# Altium footprint library HIROSE_DF9-41P-1V_32_.PcbLib: 1 footprints
Each footprint in its own frame and in the unit in brackets; x right, y up, seen from the top. Pads: shape width x height; smd on the part's side, far side on the other; paste and mask are expansions set on the pad; w line width, h text height; cw(c..) or ccw(c..) is an arc to the next point about the centre after c.
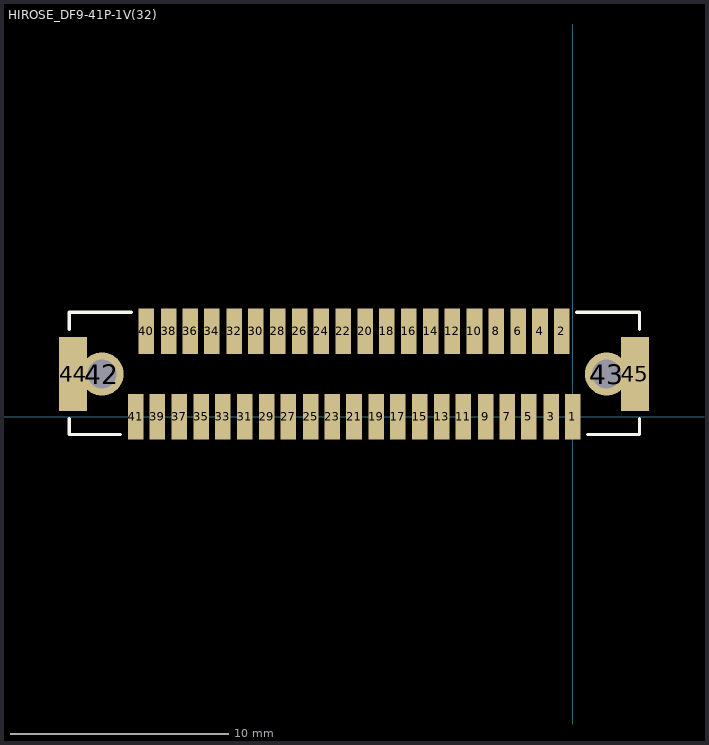
[diagram p0: the footprint, top view; thin cyan lines are the x and y axes]

## HIROSE_DF9-41P-1V(32) [mil]
pads (45):
  rect 28x82 smd: 1(0,0) 2(-20,154) 3(-39,0) 4(-59,154) 5(-79,0) 6(-98,154) 7(-118,0) 8(-138,154) 9(-157,0) 10(-177,154) 11(-197,0) 12(-217,154) 13(-236,0) 14(-256,154) 15(-276,0) 16(-295,154) 17(-315,0) 18(-335,154) 19(-354,0) 20(-374,154) 21(-394,0) 22(-413,154) 23(-433,0) 24(-453,154) 25(-472,0) 26(-492,154) 27(-512,0) 28(-531,154) 29(-551,0) 30(-571,154) 31(-591,0) 32(-610,154) 33(-630,0) 34(-650,154) 35(-669,0) 36(-689,154) 37(-709,0) 38(-728,154) 39(-748,0) 40(-768,154) 41(-787,0)
  round 78 hole 52: 42(-848,77) 43(61,77)
  rect 51x134 smd: 44(-900,77) 45(112,77)
Top Overlay:
  lines w6: -907,-3 -907,-32 -815,-32 ; -907,157 -907,188 -795,188 ; 7,188 120,188 120,157 ; 27,-32 120,-32 120,-3
3D body "DF9-41P-1V.stp": height 130.42, standoff -31, extent -906.85,-33.28 120.71,187.19